# EAGLE library part LTC3729 (library PowerProducts)
550kHz, PolyPhase, High Efficiency, Synchronous Step-Down Switching Regulator
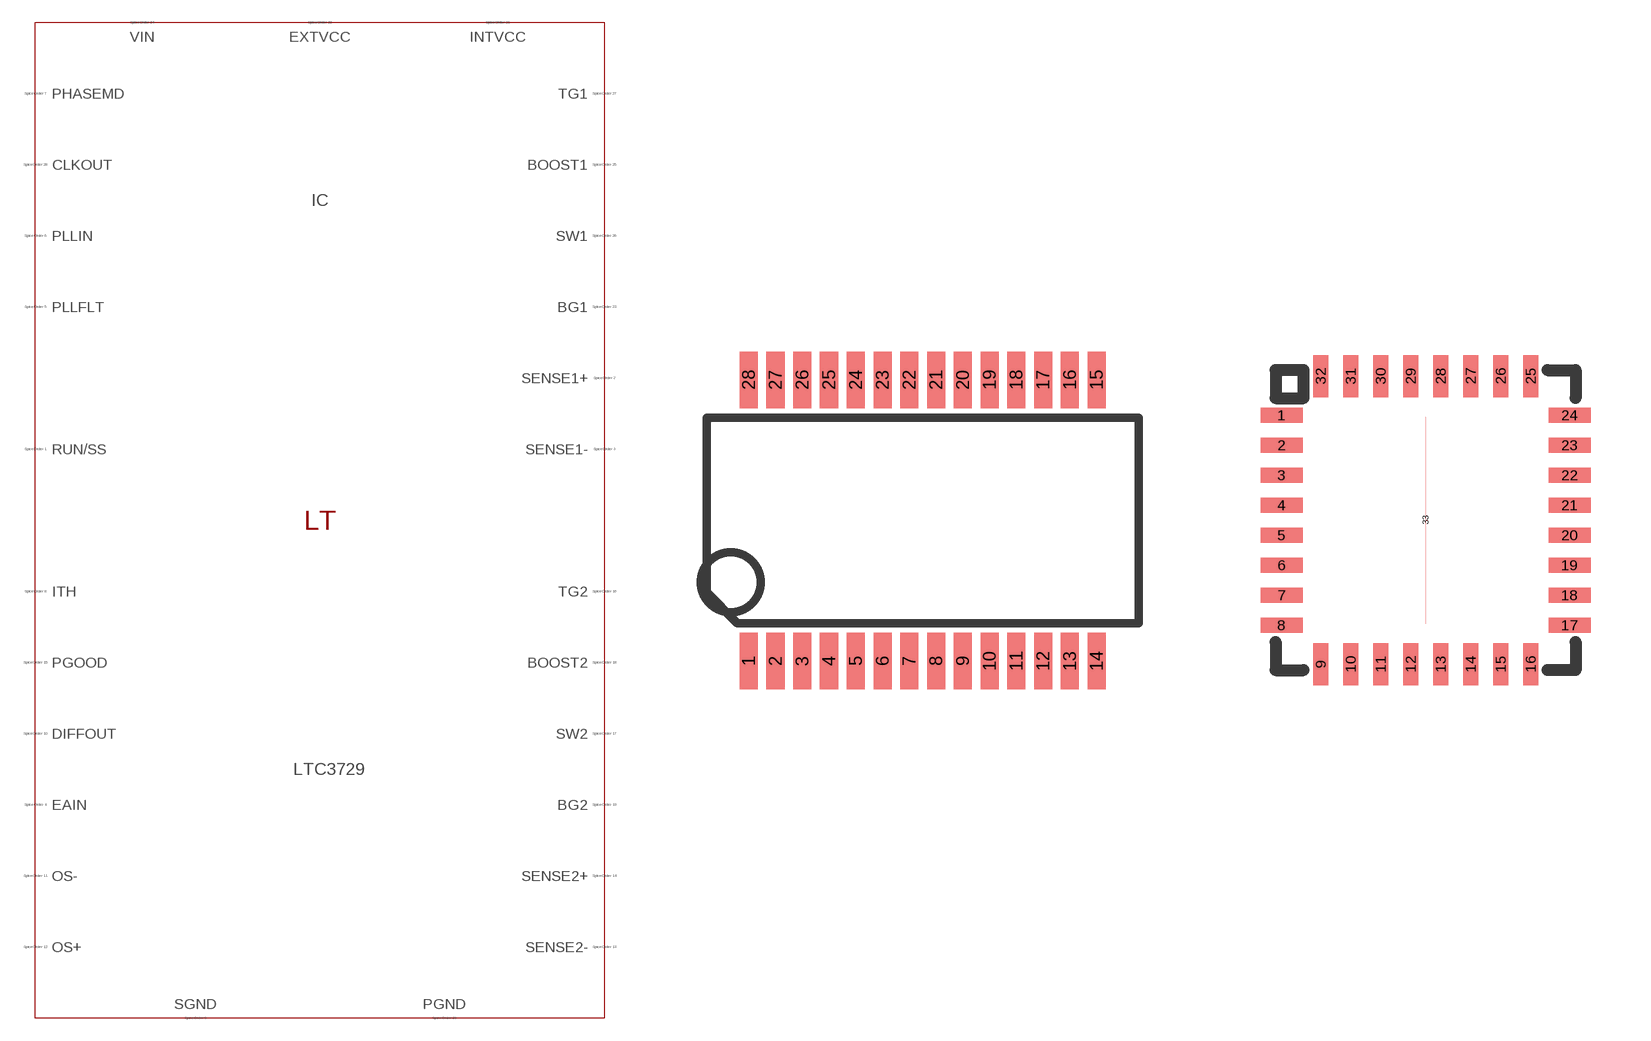
[diagram p308: symbol with the pads of SSOP28(G); footprints SSOP28(G), QFN32(UH)]

Designator prefix IC

## LTC3729 (SPICEMODEL: LTC3729.sub; SPICEPREFIX: X; VALUE2: LTC3729)  [SSOP28(G)]
1  RUN/SS  pas
2  SENSE1+  pas
3  SENSE1-  pas
4  EAIN  pas
5  PLLFLT  pas
6  PLLIN  pas
7  PHASEMD  pas
8  ITH  pas
9  SGND  pas
10  DIFFOUT  pas
11  OS-  pas
12  OS+  pas
13  SENSE2-  pas
14  SENSE2+  pas
15  PGOOD  pas
16  TG2  pas
17  SW2  pas
18  BOOST2  pas
19  BG2  pas
20  PGND  pas
21  INTVCC  pas
22  EXTVCC  pas
23  BG1  pas
24  VIN  pas
25  BOOST1  pas
26  SW1  pas
27  TG1  pas
28  CLKOUT  pas

## LTC3729UH (SPICEMODEL: LTC3729.sub; SPICEPREFIX: X; VALUE2: LTC3729)  [QFN32(UH)]
1  EAIN  pas
2  PLLFLT  pas
3  PLLIN  pas
4  PHASEMD  pas
5  ITH  pas
6  SGND  pas
7  DIFFOUT  pas
8  OS-  pas
9  OS+  pas
11  SENSE2-  pas
12  SENSE2+  pas
13  PGOOD  pas
14  TG2  pas
15  SW2  pas
17  BOOST2  pas
18  BG2  pas
19  PGND  pas
20  INTVCC  pas
21  EXTVCC  pas
22  BG1  pas
23  VIN  pas
24  BOOST1  pas
25  SW1  pas
26  TG1  pas
27  CLKOUT  pas
28  RUN/SS  pas
30  SENSE1+  pas
31  SENSE1-  pas
33  SGND  pas

## Footprint SSOP28(G) (pad centres in mm)
Package generated from: SSOP28(G).asc (!PADS-POWERPCB-V5.0-BASIC! DESIGN DATABASE ASCII FILE 1.0) with :import-pads-powerpcb-v5.ulp Version 1.0.1 at 04.10.2012 14:11:39
smd 0.66 x 2.055: 1 -6.338,-5.122; 2 -5.362,-5.122; 3 -4.388,-5.122; 4 -3.413,-5.122; 5 -2.438,-5.122; 6 -1.462,-5.122; 7 -0.487,-5.122; 8 0.487,-5.122; 9 1.462,-5.122; 10 2.438,-5.122; 11 3.413,-5.122; 12 4.388,-5.122; 13 5.362,-5.122; 14 6.338,-5.122; 15 6.338,5.122; 16 5.362,5.122; 17 4.388,5.122; 18 3.413,5.122; 19 2.438,5.122; 20 1.462,5.122; 21 0.487,5.122; 22 -0.487,5.122; 23 -1.462,5.122; 24 -2.438,5.122; 25 -3.413,5.122; 26 -4.388,5.122; 27 -5.362,5.122; 28 -6.338,5.122

## Footprint QFN32(UH) (pad centres in mm)
Package generated from: QFN32(UH).asc (!PADS-POWERPCB-V5.0-BASIC! DESIGN DATABASE ASCII FILE 1.0) with :import-pads-powerpcb-v5.ulp Version 1.0.1 at 04.10.2012 14:11:25
smd 1.05 x 0.375: 1 -3.6,2.625; 2 -3.6,1.875; 3 -3.6,1.125; 4 -3.6,0.375; 5 -3.6,-0.375; 6 -3.6,-1.125; 7 -3.6,-1.875; 8 -3.6,-2.625; 17 3.6,-2.625; 18 3.6,-1.875; 19 3.6,-1.125; 20 3.6,-0.375; 21 3.6,0.375; 22 3.6,1.125; 23 3.6,1.875; 24 3.6,2.625
smd 0.375 x 1.05: 9 -2.625,-3.6; 10 -1.875,-3.6; 11 -1.125,-3.6; 12 -0.375,-3.6; 13 0.375,-3.6; 14 1.125,-3.6; 15 1.875,-3.6; 16 2.625,-3.6; 25 2.625,3.6; 26 1.875,3.6; 27 1.125,3.6; 28 0.375,3.6; 29 -0.375,3.6; 30 -1.125,3.6; 31 -1.875,3.6; 32 -2.625,3.6
smd 0 x 5.175: 33 0,0